# Altium schematic symbol library EL-sense_Battery_Holders.SchLib: 1 symbol
Pins are listed as number, name and electrical type; pins without a type are passive.

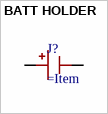
[diagram p0: symbol BATT HOLDER]

## BATT HOLDER
designator J?
pins: 1, 2